# Altium footprint library CustomParts.PcbLib: 113 footprints (part 1 of 8)
Each footprint in its own frame and in the unit in brackets; x right, y up, seen from the top. Pads: shape width x height; smd on the part's side, far side on the other; paste and mask are expansions set on the pad; w line width, h text height; cw(c..) or ccw(c..) is an arc to the next point about the centre after c.
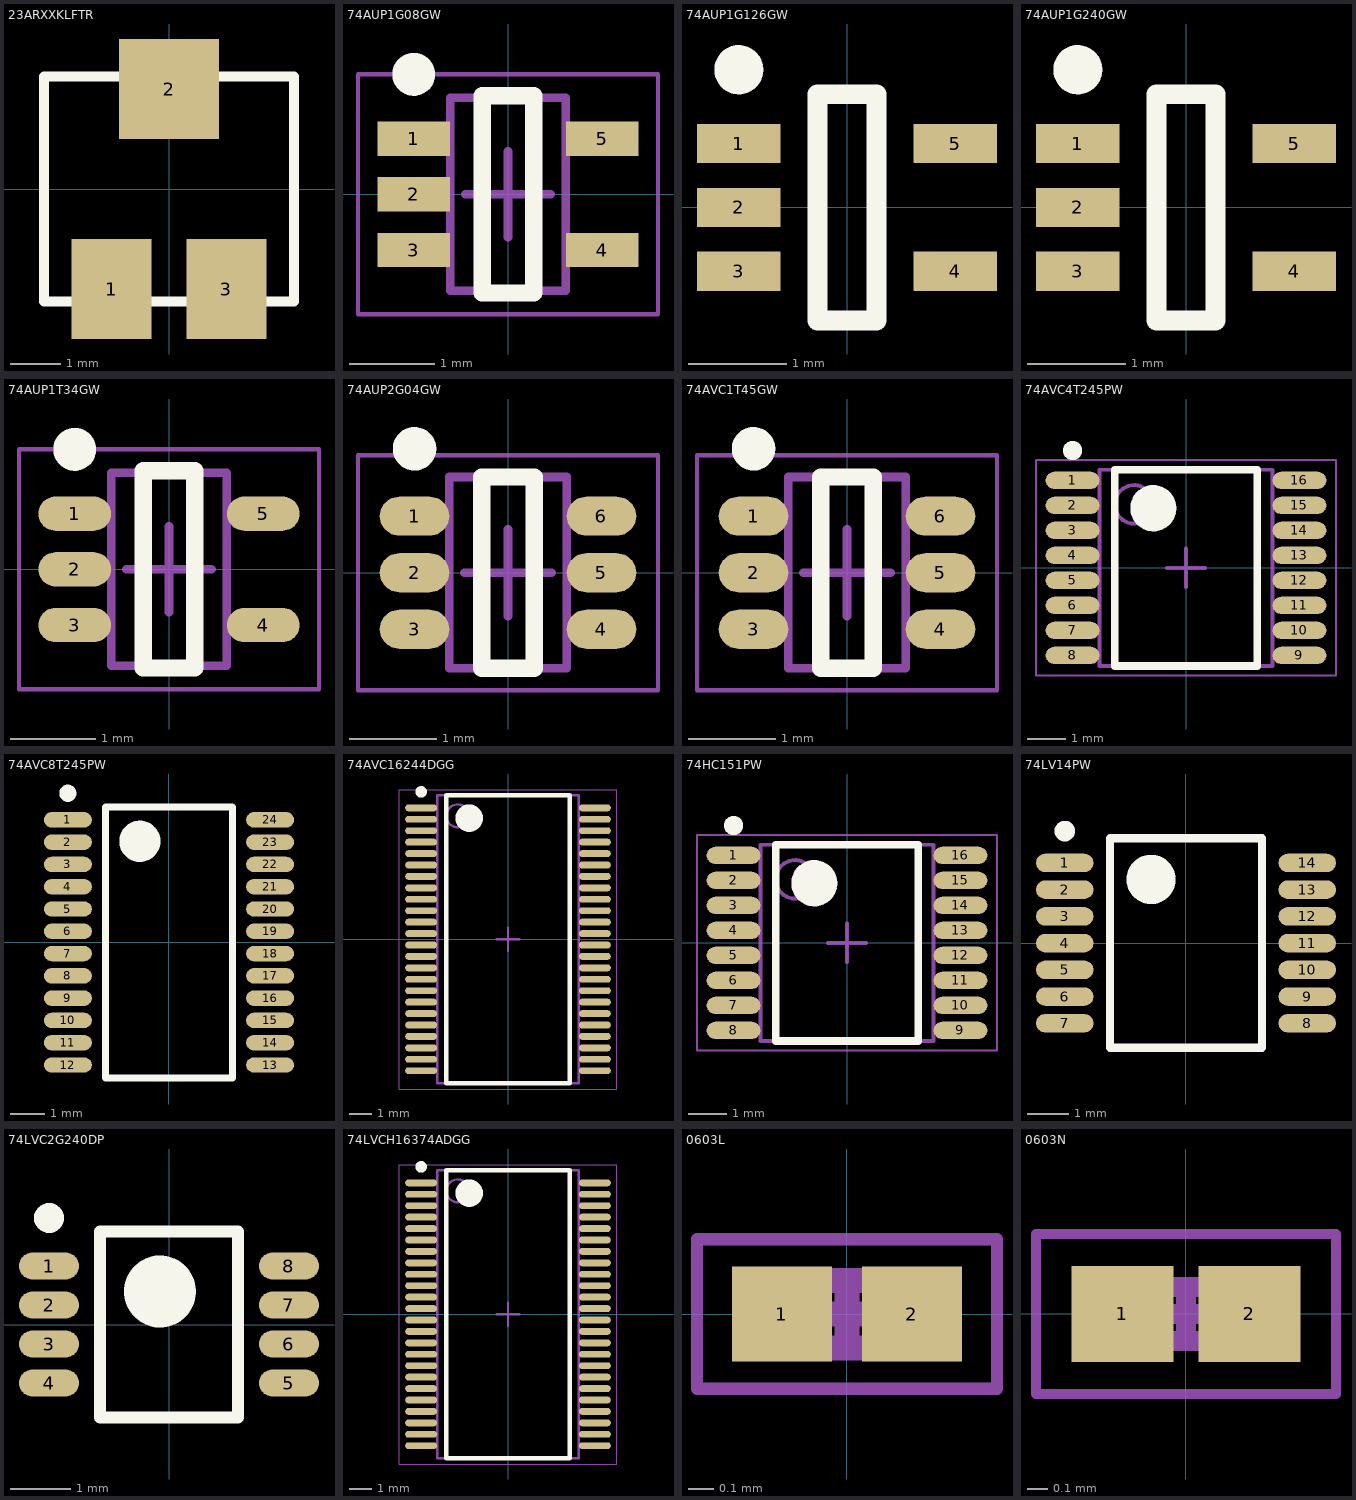
[diagram p0: the footprints below, top view; thin cyan lines are the x and y axes]

## 23ARXXKLFTR [mm] "TT Electronics Model 23 Potentiometer"
pads (3):
  rect 1.6x2 smd: 1(-1.15,-2) 3(1.15,-2)
  rect 2x2 smd: 2(0,2)
Top Overlay:
  lines w0.203: -2.5,-2.25 2.5,-2.25 2.5,2.25 -2.5,2.25 -2.5,-2.25

## 74AUP1G08GW [mm] "SOT23, 5-Leads, Body 2.05x2.13mm, Pitch 0.65mm, IPC Medium Density"
height 1.1
pads (5):
  rect 0.85x0.4 smd: 1(-1.1,0.65) 2(-1.1,0) 3(-1.1,-0.65) 4(1.1,-0.65) 5(1.1,0.65)
Top Overlay:
  circle w0.25: c-1.1,1.4 r0.125
  lines w0.2: -0.3,-1.15 -0.3,1.15 0.3,1.15 0.3,-1.15 -0.3,-1.15
Mechanical 13:
  lines w0.1: -0.675,-1.125 0.675,-1.125 0.675,1.125 -0.675,1.125 -0.675,-1.125
Mechanical 15:
  lines w0.05: -1.75,-1.4 1.75,-1.4 1.75,1.4 -1.75,1.4 -1.75,-1.4
  lines w0.1: -0.5,0 0.5,0 ; 0,-0.5 0,0.5
3D body "74AUP1G08GW,125.step": height 1.1, standoff 0, extent -1.125,-1.125 1.125,1.125

## 74AUP1G126GW [mm] "Altium Generated SOT-23-5"
height 1.1
pads (5):
  rect 0.85x0.4 smd mask+0.127: 1(-1.1,0.65) 2(-1.1,0) 3(-1.1,-0.65) 4(1.1,-0.65) 5(1.1,0.65)
Top Overlay:
  circle w0.25: c-1.1,1.4 r0.125
  lines w0.2: -0.3,-1.15 0.3,-1.15 0.3,1.15 -0.3,1.15 -0.3,-1.15
3D body: height 1.1, standoff 0.1, extent -0.675,-1.125 0.675,1.125

## 74AUP1G240GW [mm] "Altium Generated SOT-23-5"
height 1.1
pads (5):
  rect 0.85x0.4 smd mask+0.127: 1(-1.1,0.65) 2(-1.1,0) 3(-1.1,-0.65) 4(1.1,-0.65) 5(1.1,0.65)
Top Overlay:
  circle w0.25: c-1.1,1.4 r0.125
  lines w0.2: -0.3,-1.15 0.3,-1.15 0.3,1.15 -0.3,1.15 -0.3,-1.15
3D body: height 1.1, standoff 0.1, extent -0.675,-1.125 0.675,1.125

## 74AUP1T34GW [mm] "SOT23, 5-Leads, Body 2.05x2.13mm, Pitch 0.65mm, IPC Medium Density"
height 1.1
pads (5):
  oval 0.85x0.4 smd: 1(-1.1,0.65) 2(-1.1,0) 3(-1.1,-0.65) 4(1.1,-0.65) 5(1.1,0.65)
Top Overlay:
  circle w0.25: c-1.1,1.4 r0.125
  lines w0.2: -0.3,-1.15 -0.3,1.15 0.3,1.15 0.3,-1.15 -0.3,-1.15
Mechanical 13:
  lines w0.1: -0.675,-1.125 0.675,-1.125 0.675,1.125 -0.675,1.125 -0.675,-1.125
Mechanical 15:
  lines w0.05: -1.75,-1.4 1.75,-1.4 1.75,1.4 -1.75,1.4 -1.75,-1.4
  lines w0.1: -0.5,0 0.5,0 ; 0,-0.5 0,0.5
3D body "74AUP1T34GW.step": height 1.1, standoff 0, extent -1.125,-1.125 1.125,1.125

## 74AUP2G04GW [mm] "SOT23, 6-Leads, Body 2.00x2.10mm, Pitch 0.65mm, IPC Medium Density"
height 1.1
pads (6):
  oval 0.8x0.45 smd: 1(-1.075,0.65) 2(-1.075,0) 3(-1.075,-0.65) 4(1.075,-0.65) 5(1.075,0) 6(1.075,0.65)
Top Overlay:
  circle w0.25: c-1.075,1.425 r0.125
  lines w0.2: -0.3,-1.1 -0.3,1.1 0.3,1.1 0.3,-1.1 -0.3,-1.1
Mechanical 13:
  lines w0.1: -0.675,-1.1 0.675,-1.1 0.675,1.1 -0.675,1.1 -0.675,-1.1
Mechanical 15:
  lines w0.05: -1.725,-1.35 1.725,-1.35 1.725,1.35 -1.725,1.35 -1.725,-1.35
  lines w0.1: -0.5,0 0.5,0 ; 0,-0.5 0,0.5
3D body "74AUP2G04GW.step": height 1.1, standoff 0, extent -1.15,-1.1 1.15,1.1

## 74AVC1T45GW [mm] "SOT23, 6-Leads, Body 2.00x2.10mm, Pitch 0.65mm, IPC Medium Density"
height 1.1
pads (6):
  oval 0.8x0.45 smd: 1(-1.075,0.65) 2(-1.075,0) 3(-1.075,-0.65) 4(1.075,-0.65) 5(1.075,0) 6(1.075,0.65)
Top Overlay:
  circle w0.25: c-1.075,1.425 r0.125
  lines w0.2: -0.3,-1.1 0.3,-1.1 0.3,1.1 -0.3,1.1 -0.3,-1.1
Mechanical 13:
  lines w0.1: -0.675,-1.1 -0.675,1.1 0.675,1.1 0.675,-1.1 -0.675,-1.1
Mechanical 15:
  lines w0.05: -1.725,-1.35 -1.725,1.35 1.725,1.35 1.725,-1.35 -1.725,-1.35
  lines w0.1: -0.5,0 0.5,0 ; 0,-0.5 0,0.5
3D body "74AVC1T45GW2.step": height 1.1, standoff 0, extent -1.15,-1.1 1.15,1.1

## 74AVC4T245PW [mm] "TSOP, 16-Leads, Body 5.00x4.40mm, Pitch 0.65mm, IPC Medium Density"
height 1.1
pads (16):
  oval 1.4x0.45 smd: 1(-2.95,2.275) 2(-2.95,1.625) 3(-2.95,0.975) 4(-2.95,0.325) 5(-2.95,-0.325) 6(-2.95,-0.975) 7(-2.95,-1.625) 8(-2.95,-2.275) 9(2.95,-2.275) 10(2.95,-1.625) 11(2.95,-0.975) 12(2.95,-0.325) 13(2.95,0.325) 14(2.95,0.975) 15(2.95,1.625) 16(2.95,2.275)
Top Overlay:
  circle w0.6: c-0.85,1.55 r0.3
  circle w0.25: c-2.95,3.05 r0.125
  lines w0.2: -1.85,-2.55 1.85,-2.55 1.85,2.55 -1.85,2.55 -1.85,-2.55
Mechanical 13:
  circle w0.1: c-1.35,1.65 r0.5
  lines w0.1: -2.25,-2.55 2.25,-2.55 2.25,2.55 -2.25,2.55 -2.25,-2.55
Mechanical 15:
  lines w0.05: -3.9,-2.8 3.9,-2.8 3.9,2.8 -3.9,2.8 -3.9,-2.8
  lines w0.1: -0.5,0 0.5,0 ; 0,-0.5 0,0.5
3D body "74AVC4T245PW-3.step": height 1.1, standoff 0.05, extent -2.857,-2.55 2.857,2.55

## 74AVC8T245PW [mm] "ALtium Generated 24-TSSOP (4.40mm Width)"
height 1.1
pads (24):
  oval 1.4x0.45 smd: 1(-2.95,3.575) 2(-2.95,2.925) 3(-2.95,2.275) 4(-2.95,1.625) 5(-2.95,0.975) 6(-2.95,0.325) 7(-2.95,-0.325) 8(-2.95,-0.975) 9(-2.95,-1.625) 10(-2.95,-2.275) 11(-2.95,-2.925) 12(-2.95,-3.575) 13(2.95,-3.575) 14(2.95,-2.925) 15(2.95,-2.275) 16(2.95,-1.625) 17(2.95,-0.975) 18(2.95,-0.325) 19(2.95,0.325) 20(2.95,0.975) 21(2.95,1.625) 22(2.95,2.275) 23(2.95,2.925) 24(2.95,3.575)
Top Overlay:
  circle w0.25: c-2.95,4.35 r0.125
  circle w0.6: c-0.85,2.95 r0.3
  lines w0.203: -1.85,-3.95 -1.85,3.95 1.85,3.95 1.85,-3.95 -1.85,-3.95
3D body: height 1.1, standoff 0.05, extent -2.25,-3.95 2.25,3.95

## 74AVC16244DGG [mm] "ALtium Generated 48-TSSOP (6.1mm Width)"
height 1.2
pads (48):
  oval 1.4x0.3 smd: 1(-3.8,5.75) 2(-3.8,5.25) 3(-3.8,4.75) 4(-3.8,4.25) 5(-3.8,3.75) 6(-3.8,3.25) 7(-3.8,2.75) 8(-3.8,2.25) 9(-3.8,1.75) 10(-3.8,1.25) 11(-3.8,0.75) 12(-3.8,0.25) 13(-3.8,-0.25) 14(-3.8,-0.75) 15(-3.8,-1.25) 16(-3.8,-1.75) 17(-3.8,-2.25) 18(-3.8,-2.75) 19(-3.8,-3.25) 20(-3.8,-3.75) 21(-3.8,-4.25) 22(-3.8,-4.75) 23(-3.8,-5.25) 24(-3.8,-5.75) 25(3.8,-5.75) 26(3.8,-5.25) 27(3.8,-4.75) 28(3.8,-4.25) 29(3.8,-3.75) 30(3.8,-3.25) 31(3.8,-2.75) 32(3.8,-2.25) 33(3.8,-1.75) 34(3.8,-1.25) 35(3.8,-0.75) 36(3.8,-0.25) 37(3.8,0.25) 38(3.8,0.75) 39(3.8,1.25) 40(3.8,1.75) 41(3.8,2.25) 42(3.8,2.75) 43(3.8,3.25) 44(3.8,3.75) 45(3.8,4.25) 46(3.8,4.75) 47(3.8,5.25) 48(3.8,5.75)
Top Overlay:
  circle w0.6: c-1.7,5.3 r0.3
  circle w0.25: c-3.8,6.45 r0.125
  lines w0.2: -2.7,-6.3 2.7,-6.3 2.7,6.3 -2.7,6.3 -2.7,-6.3
Mechanical 13:
  circle w0.1: c-2.2,5.4 r0.5
  lines w0.1: -3.1,-6.3 3.1,-6.3 3.1,6.3 -3.1,6.3 -3.1,-6.3
Mechanical 15:
  lines w0.05: -4.75,-6.55 4.75,-6.55 4.75,6.55 -4.75,6.55 -4.75,-6.55
  lines w0.1: -0.5,0 0.5,0 ; 0,-0.5 0,0.5
3D body: height 1.2, standoff 0.05, extent -3.1,-6.3 3.1,6.3

## 74HC151PW [mm] "TSOP, 16-Leads, Body 5.00x4.40mm, Pitch 0.65mm, IPC Medium Density"
height 1.1
pads (16):
  oval 1.4x0.45 smd: 1(-2.95,2.275) 2(-2.95,1.625) 3(-2.95,0.975) 4(-2.95,0.325) 5(-2.95,-0.325) 6(-2.95,-0.975) 7(-2.95,-1.625) 8(-2.95,-2.275) 9(2.95,-2.275) 10(2.95,-1.625) 11(2.95,-0.975) 12(2.95,-0.325) 13(2.95,0.325) 14(2.95,0.975) 15(2.95,1.625) 16(2.95,2.275)
Top Overlay:
  circle w0.6: c-0.85,1.55 r0.3
  circle w0.25: c-2.95,3.05 r0.125
  lines w0.2: -1.85,-2.55 1.85,-2.55 1.85,2.55 -1.85,2.55 -1.85,-2.55
Mechanical 13:
  circle w0.1: c-1.35,1.65 r0.5
  lines w0.1: -2.25,-2.55 2.25,-2.55 2.25,2.55 -2.25,2.55 -2.25,-2.55
Mechanical 15:
  lines w0.05: -3.9,-2.8 3.9,-2.8 3.9,2.8 -3.9,2.8 -3.9,-2.8
  lines w0.1: -0.5,0 0.5,0 ; 0,-0.5 0,0.5
3D body "TSOP65P640X110-16N.step": height 1.1, standoff 0, extent -3.2,-2.55 3.2,2.55

## 74LV14PW [mm] "ALtium Generated 14-TSSOP (4.40mm Width)"
height 1.1
pads (14):
  oval 1.4x0.45 smd: 1(-2.95,1.95) 2(-2.95,1.3) 3(-2.95,0.65) 4(-2.95,0) 5(-2.95,-0.65) 6(-2.95,-1.3) 7(-2.95,-1.95) 8(2.95,-1.95) 9(2.95,-1.3) 10(2.95,-0.65) 11(2.95,0) 12(2.95,0.65) 13(2.95,1.3) 14(2.95,1.95)
Top Overlay:
  circle w0.25: c-2.95,2.725 r0.125
  circle w0.6: c-0.85,1.55 r0.3
  lines w0.203: -1.85,-2.55 -1.85,2.55 1.85,2.55 1.85,-2.55 -1.85,-2.55
3D body: height 1.1, standoff 0.05, extent -2.25,-2.55 2.25,2.55

## 74LVC2G240DP [mm] "ALtium Generated 8-TSSOP (3.00mm Width)"
height 1.1
pads (8):
  oval 1x0.45 smd: 1(-2,0.975) 2(-2,0.325) 3(-2,-0.325) 4(-2,-0.975) 5(2,-0.975) 6(2,-0.325) 7(2,0.325) 8(2,0.975)
Top Overlay:
  circle w0.6: c-0.15,0.55 r0.3
  circle w0.25: c-2,1.775 r0.125
  lines w0.2: -1.15,-1.55 1.15,-1.55 1.15,1.55 -1.15,1.55 -1.15,-1.55
3D body: height 1.1, standoff 0, extent -1.55,-1.55 1.55,1.55

## 74LVCH16374ADGG [mm] "TSSOP, 48-Leads, Body 12.50x6.10mm, Pitch 0.50mm, IPC Medium Density"
height 1.2
pads (48):
  oval 1.4x0.3 smd: 1(-3.8,5.75) 2(-3.8,5.25) 3(-3.8,4.75) 4(-3.8,4.25) 5(-3.8,3.75) 6(-3.8,3.25) 7(-3.8,2.75) 8(-3.8,2.25) 9(-3.8,1.75) 10(-3.8,1.25) 11(-3.8,0.75) 12(-3.8,0.25) 13(-3.8,-0.25) 14(-3.8,-0.75) 15(-3.8,-1.25) 16(-3.8,-1.75) 17(-3.8,-2.25) 18(-3.8,-2.75) 19(-3.8,-3.25) 20(-3.8,-3.75) 21(-3.8,-4.25) 22(-3.8,-4.75) 23(-3.8,-5.25) 24(-3.8,-5.75) 25(3.8,-5.75) 26(3.8,-5.25) 27(3.8,-4.75) 28(3.8,-4.25) 29(3.8,-3.75) 30(3.8,-3.25) 31(3.8,-2.75) 32(3.8,-2.25) 33(3.8,-1.75) 34(3.8,-1.25) 35(3.8,-0.75) 36(3.8,-0.25) 37(3.8,0.25) 38(3.8,0.75) 39(3.8,1.25) 40(3.8,1.75) 41(3.8,2.25) 42(3.8,2.75) 43(3.8,3.25) 44(3.8,3.75) 45(3.8,4.25) 46(3.8,4.75) 47(3.8,5.25) 48(3.8,5.75)
Top Overlay:
  circle w0.6: c-1.7,5.3 r0.3
  circle w0.25: c-3.8,6.45 r0.125
  lines w0.2: -2.7,-6.3 2.7,-6.3 2.7,6.3 -2.7,6.3 -2.7,-6.3
Mechanical 13:
  circle w0.1: c-2.2,5.4 r0.5
  lines w0.1: -3.1,-6.3 3.1,-6.3 3.1,6.3 -3.1,6.3 -3.1,-6.3
Mechanical 15:
  lines w0.05: -4.75,-6.55 4.75,-6.55 4.75,6.55 -4.75,6.55 -4.75,-6.55
  lines w0.1: -0.5,0 0.5,0 ; 0,-0.5 0,0.5
3D body "TSSOP50P810X120-48N.step": height 1.2, standoff 0, extent -4.05,-6.3 4.05,6.3

## 0603L [mm] "0201 (0603 Metric). Chip Capacitor, 2-Leads, Body 0.60x0.30mm, IPC High Density"
height 0.33
pads (2):
  rect 0.4x0.38 smd: 1(-0.26,0) 2(0.26,0)
Mechanical 13:
  lines w0.1: -0.315,-0.135 0.315,-0.135 0.315,0.135 -0.315,0.135 -0.315,-0.135
Mechanical 15:
  lines w0.05: -0.6,-0.3 0.6,-0.3 0.6,0.3 -0.6,0.3 -0.6,-0.3
  lines w0.1: -0.135,0 0.135,0 ; 0,-0.135 0,0.135
3D body: height 0.33, standoff 0, extent 0.165,-0.135 0.315,0.135
3D body: height 0.33, standoff 0, extent -0.315,-0.135 -0.165,0.135
3D body: height 0.33, standoff 0, extent -0.165,-0.135 0.165,0.135

## 0603N [mil] "0201 (0603 Metric). Chip Capacitor, 2-Leads, Body 0.60x0.30mm, IPC Medium Density"
height 12.99
pads (2):
  rect 20x18.9 smd: 1(-12.5,0) 2(12.5,0)
Mechanical 13:
  lines w3.94: -12.4,-5.32 -12.4,5.31 12.4,5.31 12.4,-5.32 -12.4,-5.32
Mechanical 15:
  lines w1.97: -29.53,-15.75 -29.53,15.75 29.53,15.75 29.53,-15.75 -29.53,-15.75
  lines w3.94: -5.31,0 5.32,0 ; 0,-5.32 0,5.31
3D body: height 12.99, standoff 0, extent -6.5,-5.32 6.5,5.31
3D body: height 12.99, standoff 0, extent -12.4,-5.32 -6.5,5.31
3D body: height 12.99, standoff 0, extent 6.5,-5.32 12.4,5.31